# Altium footprint library STM8L051F3.PcbLib: 1 footprints
Each footprint in its own frame and in the unit in brackets; x right, y up, seen from the top. Pads: shape width x height; smd on the part's side, far side on the other; paste and mask are expansions set on the pad; w line width, h text height; cw(c..) or ccw(c..) is an arc to the next point about the centre after c.
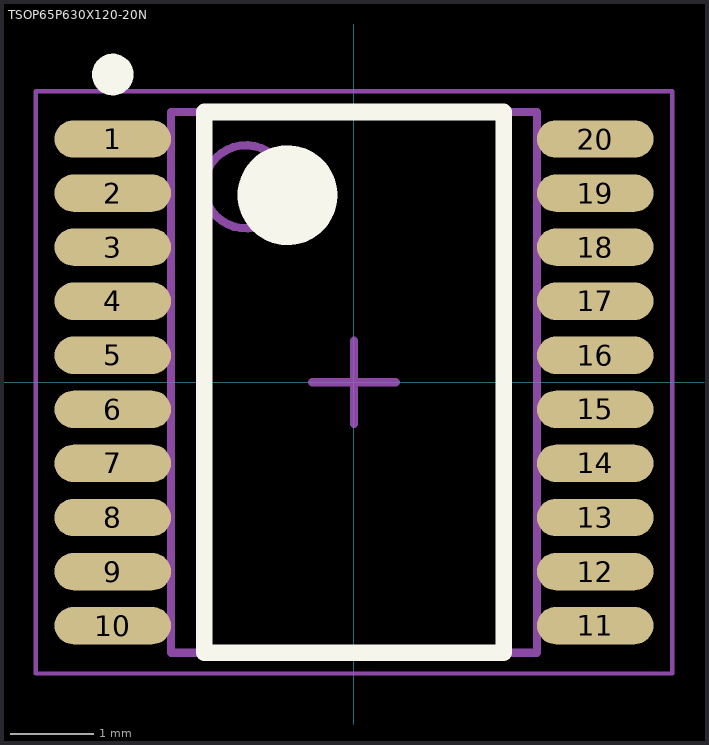
[diagram p0: the footprint, top view; thin cyan lines are the x and y axes]

## TSOP65P630X120-20N [mm] "TSOP, 20-Leads, Body 6,45x4,35mm, Pitch 0,65mm, IPC Medium Density"
height 1.2
pads (20):
  oval 1.4x0.45 smd: 1(-2.9,2.925) 2(-2.9,2.275) 3(-2.9,1.625) 4(-2.9,0.975) 5(-2.9,0.325) 6(-2.9,-0.325) 7(-2.9,-0.975) 8(-2.9,-1.625) 9(-2.9,-2.275) 10(-2.9,-2.925) 11(2.9,-2.925) 12(2.9,-2.275) 13(2.9,-1.625) 14(2.9,-0.975) 15(2.9,-0.325) 16(2.9,0.325) 17(2.9,0.975) 18(2.9,1.625) 19(2.9,2.275) 20(2.9,2.925)
Top Overlay:
  circle w0.6: c-0.8,2.25 r0.3
  circle w0.25: c-2.9,3.7 r0.125
  lines w0.2: -1.8,-3.25 1.8,-3.25 1.8,3.25 -1.8,3.25 -1.8,-3.25
Mechanical 13:
  circle w0.1: c-1.3,2.35 r0.5
  lines w0.1: -2.2,-3.25 2.2,-3.25 2.2,3.25 -2.2,3.25 -2.2,-3.25
Mechanical 15:
  lines w0.05: -3.825,-3.5 3.825,-3.5 3.825,3.5 -3.825,3.5 -3.825,-3.5
  lines w0.1: -0.5,0 0.5,0 ; 0,-0.5 0,0.5
3D body "TSOP65P630X120-20N.step": height 1.2, standoff 0, extent -3.15,-3.25 3.15,3.25